# Altium schematic symbol library IPULSE.Schlib: 1 symbol
Pins are listed as number, name and electrical type; pins without a type are passive.

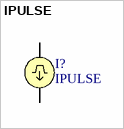
[diagram p0: symbol IPULSE]

## IPULSE
designator I?
Pulse Current Source
pins: 1, 2